# Altium footprint library CHIP_RESISTOR_SURFACE_MOUNT.PcbLib: 9 footprints
Each footprint in its own frame and in the unit in brackets; x right, y up, seen from the top. Pads: shape width x height; smd on the part's side, far side on the other; paste and mask are expansions set on the pad; w line width, h text height; cw(c..) or ccw(c..) is an arc to the next point about the centre after c.
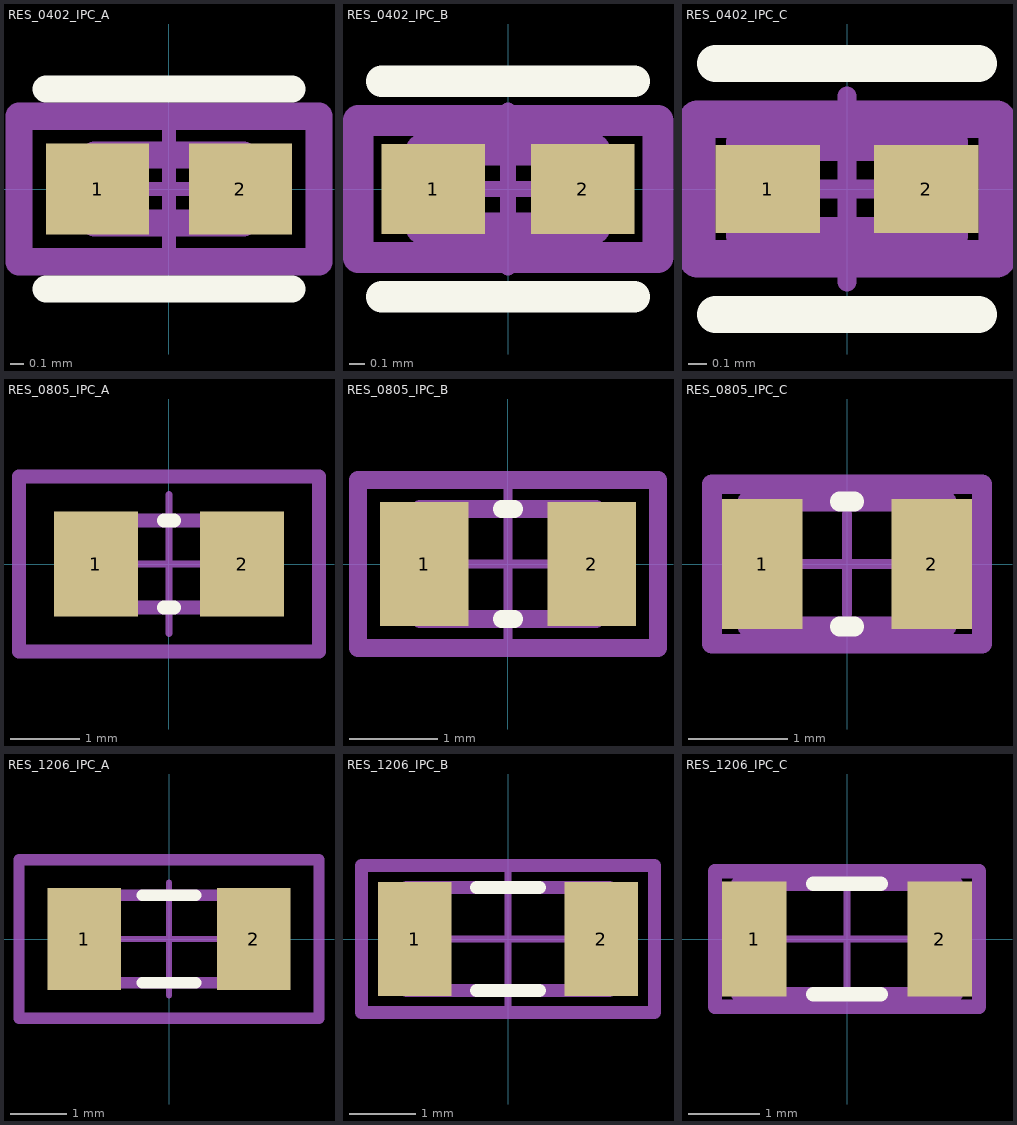
[diagram p0: the footprints below, top view; thin cyan lines are the x and y axes]

## RES_0402_IPC_A [mm] "RES_0402_IPC_A"
pads (2):
  rect 0.76x0.672 smd paste+0 mask+0: 1(-0.526,0) 2(0.526,0)
Top Overlay:
  lines w0.2: -0.906,-0.736 0.906,-0.736 ; -0.906,0.736 0.906,0.736
Top Assembly:
  lines w0.2: -1.106,-0.536 1.106,-0.536 1.106,0.536 -1.106,0.536 -1.106,-0.536
Top Component Center:
  lines w0.1: -0.5,0 0.5,0 ; 0,-0.5 0,0.5
Top Component Outline:
  lines w0.2: -0.55,-0.25 0.55,-0.25 0.55,0.25 -0.55,0.25 -0.55,-0.25
Top Courtyard:
  lines w0.2: -1.106,-0.536 -1.106,0.536 1.106,0.536 1.106,-0.536 -1.106,-0.536
Top Designator:
  text ".Designator" at -7.618,-0.508 h1.52
3D body "Res_TE_CRGP0402F33R_eec.STEP": height 0.41, standoff 0.01, extent -0.55,-0.25 0.55,0.25

## RES_0402_IPC_B [mm] "RES_0402_IPC_B"
pads (2):
  rect 0.66x0.572 smd paste+0 mask+0: 1(-0.476,0) 2(0.476,0)
Top Overlay:
  lines w0.2: -0.806,-0.686 0.806,-0.686 ; -0.806,0.686 0.806,0.686
Top Assembly:
  lines w0.2: -0.956,-0.436 0.956,-0.436 0.956,0.436 -0.956,0.436 -0.956,-0.436
Top Component Center:
  lines w0.1: -0.5,0 0.5,0 ; 0,-0.5 0,0.5
Top Component Outline:
  lines w0.2: -0.55,-0.25 0.55,-0.25 0.55,0.25 -0.55,0.25 -0.55,-0.25
Top Courtyard:
  lines w0.2: -0.956,-0.436 -0.956,0.436 0.956,0.436 0.956,-0.436 -0.956,-0.436
Top Designator:
  text ".Designator" at -7.618,-0.508 h1.52
3D body "Res_TE_CRGP0402F33R_eec.STEP": height 0.41, standoff 0.01, extent -0.55,-0.25 0.55,0.25

## RES_0402_IPC_C [mm] "RES_0402_IPC_C"
pads (2):
  rect 0.56x0.472 smd paste+0 mask+0: 1(-0.426,0) 2(0.426,0)
Top Overlay:
  lines w0.2: -0.706,-0.675 0.706,-0.675 ; -0.706,0.675 0.706,0.675
Top Assembly:
  lines w0.2: -0.806,-0.375 -0.806,0.375 0.806,0.375 0.806,-0.375 -0.806,-0.375
Top Component Center:
  lines w0.1: -0.5,0 0.5,0 ; 0,-0.5 0,0.5
Top Component Outline:
  lines w0.2: -0.55,-0.25 -0.55,0.25 0.55,0.25 0.55,-0.25 -0.55,-0.25
Top Courtyard:
  lines w0.2: -0.806,-0.375 0.806,-0.375 0.806,0.375 -0.806,0.375 -0.806,-0.375
Top Designator:
  text ".Designator" at -7.618,-0.508 h1.52
3D body "Res_TE_CRGP0402F33R_eec.STEP": height 0.41, standoff 0.01, extent -0.55,-0.25 0.55,0.25

## RES_0805_IPC_A [mil] "RES_0805_IPC_A"
pads (2):
  rect 47.5x59.38 smd paste+0 mask+0: 1(-41.37,0) 2(41.37,0)
Top Overlay:
  lines w7.87: -2.86,-24.61 2.86,-24.61 ; -2.86,24.61 2.86,24.61
Top Assembly:
  lines w7.87: -84.81,-49.37 84.81,-49.37 84.81,49.37 -84.81,49.37 -84.81,-49.37
Top Component Center:
  lines w3.94: -39.37,0 39.37,0 ; 0,-39.37 0,39.37
Top Component Outline:
  lines w7.87: -39.37,-24.6 39.37,-24.6 39.37,24.61 -39.37,24.61 -39.37,-24.6
Top Courtyard:
  lines w7.87: -84.81,-49.37 -84.81,49.37 84.81,49.37 84.81,-49.37 -84.81,-49.37
Top Designator:
  text ".Designator" at -299.9,-19.99 h60
3D body "Res_Vishay_CRCW0805100KFKEA_eec.STEP": height 20.2, standoff 0.5, extent -39.37,-24.61 39.37,24.61

## RES_0805_IPC_B [mm] "RES_0805_IPC_B"
pads (2):
  rect 1.007x1.408 smd paste+0 mask+0: 1(-0.951,0) 2(0.951,0)
Top Overlay:
  lines w0.2: -0.073,-0.625 0.073,-0.625 ; -0.073,0.625 0.073,0.625
Top Assembly:
  lines w0.2: -1.704,-0.954 1.704,-0.954 1.704,0.954 -1.704,0.954 -1.704,-0.954
Top Component Center:
  lines w0.1: -1,0 1,0 ; 0,-1 0,1
Top Component Outline:
  lines w0.2: -1,-0.625 1,-0.625 1,0.625 -1,0.625 -1,-0.625
Top Courtyard:
  lines w0.2: -1.704,-0.954 -1.704,0.954 1.704,0.954 1.704,-0.954 -1.704,-0.954
Top Designator:
  text ".Designator" at -7.618,-0.508 h1.52
3D body "Res_Vishay_CRCW0805100KFKEA_eec.STEP": height 0.51, standoff 0.01, extent -1,-0.625 1,0.625

## RES_0805_IPC_C [mil] "RES_0805_IPC_C"
pads (2):
  rect 31.75x51.5 smd paste+0 mask+0: 1(-33.5,0) 2(33.5,0)
Top Overlay:
  lines w7.87: -2.86,-24.61 2.86,-24.61 ; -2.86,24.61 2.86,24.61
Top Assembly:
  lines w7.87: -53.31,-31.5 53.31,-31.5 53.31,31.5 -53.31,31.5 -53.31,-31.5
Top Component Center:
  lines w3.94: -19.68,0 19.68,0 ; 0,-19.68 0,19.68
Top Component Outline:
  lines w7.87: -39.37,-24.6 39.37,-24.6 39.37,24.61 -39.37,24.61 -39.37,-24.6
Top Courtyard:
  lines w7.87: -53.31,-31.5 -53.31,31.5 53.31,31.5 53.31,-31.5 -53.31,-31.5
Top Designator:
  text ".Designator" at -299.9,-19.99 h60
3D body "Res_Vishay_CRCW0805100KFKEA_eec.STEP": height 20.2, standoff 0.5, extent -39.37,-24.61 39.37,24.61

## RES_1206_IPC_A [mm] "RES_1206_IPC_A"
pads (2):
  rect 1.306x1.808 smd paste+0 mask+0: 1(-1.501,0) 2(1.501,0)
Top Overlay:
  lines w0.2: -0.473,-0.775 0.473,-0.775 ; -0.473,0.775 0.473,0.775
Top Assembly:
  lines w0.2: -2.654,-1.404 -2.654,1.404 2.654,1.404 2.654,-1.404 -2.654,-1.404
Top Component Center:
  lines w0.1: -1,0 1,0 ; 0,-1 0,1
Top Component Outline:
  lines w0.2: -1.525,-0.775 1.525,-0.775 1.525,0.775 -1.525,0.775 -1.525,-0.775
Top Courtyard:
  lines w0.2: -2.654,-1.404 -2.654,1.404 2.654,1.404 2.654,-1.404 -2.654,-1.404
Top Designator:
  text ".Designator" at -7.63,-0.521 h1.52
3D body "Res_TE_Connectivity_RN73C2B140KBTDF_eec.STEP": height 0.67, standoff 0.01, extent -1.525,-0.775 1.525,0.775

## RES_1206_IPC_B [mm] "RES_1206_IPC_B"
pads (2):
  rect 1.106x1.708 smd paste+0 mask+0: 1(-1.401,0) 2(1.401,0)
Top Overlay:
  lines w0.2: -0.473,-0.775 0.473,-0.775 ; -0.473,0.775 0.473,0.775
Top Assembly:
  lines w0.2: -2.204,-1.104 2.204,-1.104 2.204,1.104 -2.204,1.104 -2.204,-1.104
Top Component Center:
  lines w0.1: -1,0 1,0 ; 0,-1 0,1
Top Component Outline:
  lines w0.2: -1.525,-0.775 -1.525,0.775 1.525,0.775 1.525,-0.775 -1.525,-0.775
Top Courtyard:
  lines w0.2: -2.204,-1.104 -2.204,1.104 2.204,1.104 2.204,-1.104 -2.204,-1.104
Top Designator:
  text ".Designator" at -7.63,-0.521 h1.52
3D body "Res_TE_Connectivity_RN73C2B140KBTDF_eec.STEP": height 0.67, standoff 0.01, extent -1.525,-0.775 1.525,0.775

## RES_1206_IPC_C [mm] "RES_1206_IPC_C"
pads (2):
  rect 0.906x1.608 smd paste+0 mask+0: 1(-1.301,0) 2(1.301,0)
Top Overlay:
  lines w0.2: -0.473,-0.775 0.473,-0.775 ; -0.473,0.775 0.473,0.775
Top Assembly:
  lines w0.2: -1.854,-0.95 -1.854,0.95 1.854,0.95 1.854,-0.95 -1.854,-0.95
Top Component Center:
  lines w0.1: -1,0 1,0 ; 0,-1 0,1
Top Component Outline:
  lines w0.2: -1.525,-0.775 -1.525,0.775 1.525,0.775 1.525,-0.775 -1.525,-0.775
Top Courtyard:
  lines w0.2: -1.854,-0.95 1.854,-0.95 1.854,0.95 -1.854,0.95 -1.854,-0.95
Top Designator:
  text ".Designator" at -7.63,-0.521 h1.52
3D body "Res_TE_Connectivity_RN73C2B140KBTDF_eec.STEP": height 0.67, standoff 0.01, extent -1.525,-0.775 1.525,0.775